# Altium integrated library 10uh inductor.IntLib: 2 symbols
Pins are listed as number, name and electrical type; pins without a type are passive.

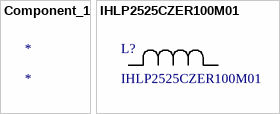
[diagram p0: symbols Component_1 to IHLP2525CZER100M01]

## Component_1
designator *

## IHLP2525CZER100M01
designator L?
No Description Available; Vendor: Vishay; Built_By: EMA_UL_Team; SourceLibrary: Vishay_2020-02-10; Type: DEV; Manufacturer_Part_Number: IHLP2525CZER100M01; Copyright: Copyright (C) 2018 Accelerated Designs. All rights reserved; RefDes: RefDes
footprint IND_IHLP_2525_CZ_VIS
pins: 1, 2